# EAGLE library part MAX5483 (library ardustat)
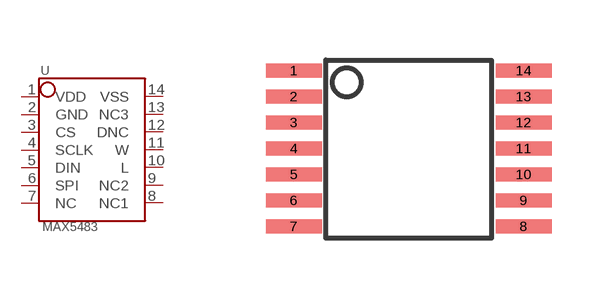
[diagram p10: symbol with the pads of MAX5483; footprint MAX5483]

Designator prefix -

## MAX5483  [MAX5483]
1  VDD
2  GND
3  CS
4  SCLK
5  DIN
6  SPI
7  NC
8  NC1
9  NC2
10  L
11  W
12  DNC
13  NC3
14  VSS

## Footprint MAX5483 (pad centres in mm)
smd 1.4 x 0.35: 1 -2.875,1.95; 2 -2.875,1.3; 3 -2.875,0.65; 4 -2.875,0; 5 -2.875,-0.65; 6 -2.875,-1.3; 7 -2.875,-1.95; 8 2.875,-1.95; 9 2.875,-1.3; 10 2.875,-0.65; 11 2.875,0; 12 2.875,0.65; 13 2.875,1.3; 14 2.875,1.95